# Altium footprint library ICs.PcbLib: 6 footprints
Each footprint in its own frame and in the unit in brackets; x right, y up, seen from the top. Pads: shape width x height; smd on the part's side, far side on the other; paste and mask are expansions set on the pad; w line width, h text height; cw(c..) or ccw(c..) is an arc to the next point about the centre after c.
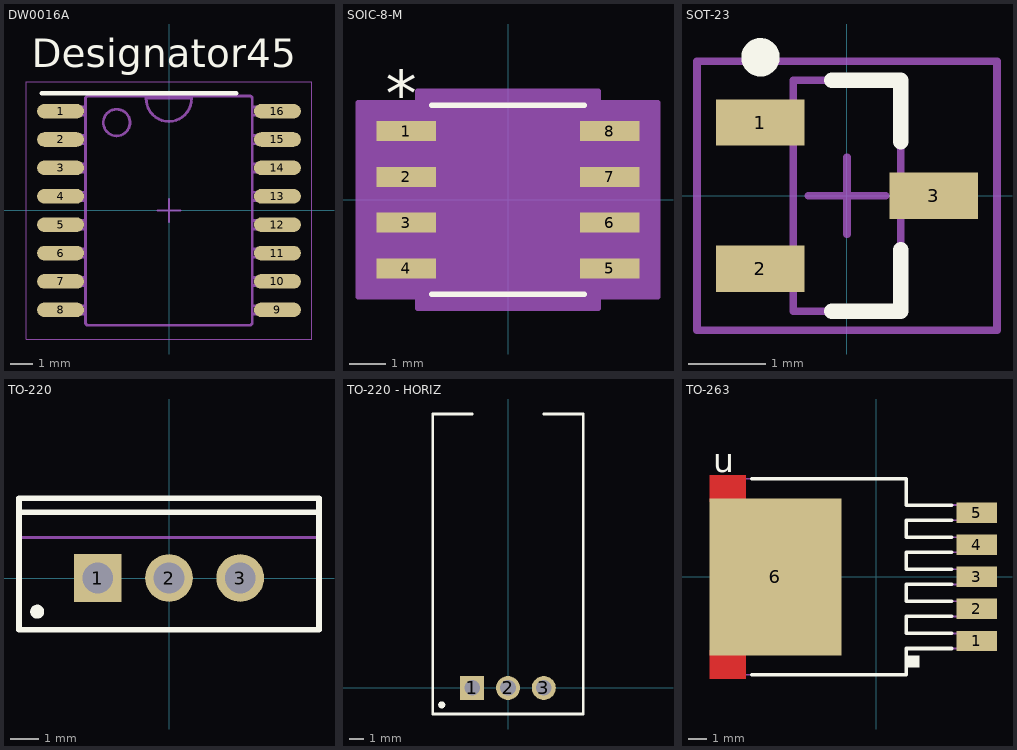
[diagram p0: the footprints below, top view; thin cyan lines are the x and y axes]

## DW0016A [mm]
height 2.65
pads (16):
  oval 2.1x0.65 smd paste+0 mask+0.051: 1(-4.85,4.445) 2(-4.85,3.175) 3(-4.85,1.905) 4(-4.85,0.635) 5(-4.85,-0.635) 6(-4.85,-1.905) 7(-4.85,-3.175) 8(-4.85,-4.445) 9(4.85,-4.445) 10(4.85,-3.175) 11(4.85,-1.905) 12(4.85,-0.635) 13(4.85,0.635) 14(4.85,1.905) 15(4.85,3.175) 16(4.85,4.445)
Top Overlay:
  lines w0.2: -5.7,5.25 3,5.25
  text ".Designator" at -3.492,-0.635 h1.27
  text "Designator45" at -6.147,6.401 h1.27
Mechanical 13:
  drawing of 193 lines, arcs and shapes, not listed
  text ".Designator" at -3.492,-0.635 h1.27
Mechanical 15:
  lines w0.05: -6.375,-5.75 -6.375,5.75 6.375,5.75 6.375,-5.75 -6.375,-5.75
  lines w0.1: -0.5,0 0.5,0 ; 0,-0.5 0,0.5
3D body: height 2.59, standoff 0, extent -5.167,-5.15 5.167,5.15

## SOIC-8-M [mil]
pads (8):
  rect 65.5x22 smd paste+0 mask+0: 1(-111.25,75) 2(-111.25,25) 3(-111.25,-25) 4(-111.25,-75) 5(111.25,-75) 6(111.25,-25) 7(111.25,25) 8(111.25,75)
Top Overlay:
  lines w6: -83.5,-103.5 83.5,-103.5 ; -83.5,103.5 83.5,103.5
  text ".Designator" at -137.5,-25 h50
  text "*" at -133.75,92 h50
Mechanical 13:
  lines w1: -12,98.5 ccw(c0,98.5) 12,98.5 ; -122,-85 -122,-65 -78.5,-65 -78.5,-85 -122,-85 ; -122,-35 -122,-15 -78.5,-15 -78.5,-35 -122,-35 ; -122,15 -122,35 -78.5,35 -78.5,15 -122,15 ; -122,65 -122,85 -78.5,85 -78.5,65 -122,65 ; -78.5,-98.5 78.5,-98.5 78.5,98.5 -78.5,98.5 -78.5,-98.5 ; 78.5,-85 78.5,-65 122,-65 122,-85 78.5,-85 ; 78.5,-35 78.5,-15 122,-15 122,-35 78.5,-35 ; 78.5,15 78.5,35 122,35 122,15 78.5,15 ; 78.5,65 78.5,85 122,85 122,65 78.5,65
  text "*" at -76,45.5 h50
  text ".Designator" at -137.5,-25 h50
Mechanical 15:
  region: -98.5,-106 -164,-106 -164,106 -98.5,106 -98.5,118.5 98.5,118.5 98.5,106 164,106 164,-106 98.5,-106 98.5,-118.5 -98.5,-118.5
  lines w6: -164,-106 -164,106 -98.5,106 -98.5,118.5 98.5,118.5 98.5,106 164,106 164,-106 98.5,-106 98.5,-118.5 -98.5,-118.5 -98.5,-106 -164,-106
3D body: height 69.09, standoff 0, extent -122.01,-98.5 122.01,98.5
3D body: height 69.09, standoff 0, extent -122.01,-98.5 122.01,98.5

## SOT-23 [mm] "SOT23, 3-Leads, Body 2.9x1.3mm, Pitch 0.95mm, Lead Span 2.3mm"
height 1.11
pads (3):
  rect 1.15x0.6 smd: 1(-1.125,0.95) 2(-1.125,-0.95) 3(1.125,0)
Top Overlay:
  circle w0.25: c-1.125,1.8 r0.125
  lines w0.2: -0.2,-1.5 0.7,-1.5 0.7,-0.7 ; -0.2,1.5 0.7,1.5 0.7,0.7
Mechanical 13:
  lines w0.1: -0.7,-1.5 0.7,-1.5 0.7,1.5 -0.7,1.5 -0.7,-1.5
Mechanical 15:
  lines w0.1: -0.5,0 0.5,0 ; 0,-0.5 0,0.5 ; -1.95,-1.75 1.95,-1.75 1.95,1.75 -1.95,1.75 -1.95,-1.75
3D body: height 1.11, standoff 0, extent -0.7,-1.5 0.7,1.5

## TO-220 [mm] "TO, Thru-Hole, Vertical, 3 In-Line Leads; Pitch 2.54 mm"
height 22.9
pads (3):
  rect 1.7x1.7 hole 1.1: 1(-2.54,0)
  round 1.7 hole 1.1: 2(0,0) 3(2.54,0)
Top Overlay:
  circle w0.25: c-4.7,-1.2 r0.125
  lines w0.2: -5.35,2.35 5.35,2.35 ; -5.35,-1.85 5.35,-1.85 5.35,2.85 -5.35,2.85 -5.35,-1.85
Mechanical 13:
  lines w0.1: -5.35,1.45 5.35,1.45 ; -5.35,-1.85 -5.35,2.85 5.35,2.85 5.35,-1.85 -5.35,-1.85
Mechanical 15:
  lines w0.1: -0.5,0 0.5,0 ; 0,-0.5 0,0.5
3D body: height 18.54, standoff -3.81, extent -5.029,-1.422 5.131,3.15

## TO-220 - HORIZ [mm] "TO, Thru-Hole, horizontal, 3 In-Line Leads; Pitch 2.54 mm"
height 4.7
pads (3):
  rect 1.7x1.7 hole 1.1: 1(-2.54,0)
  round 1.7 hole 1.1: 2(0,0) 3(2.54,0)
Top Overlay:
  circle w0.25: c-4.7,-1.2 r0.125
  lines w0.2: -2.54,19.431 -5.334,19.431 -5.334,-1.85 5.334,-1.85 5.334,19.431 2.54,19.431
Mechanical 13:
  lines w0.1: -2.54,19.431 -5.35,19.431 -5.35,-1.85 5.35,-1.85 5.35,19.431 2.54,19.431
Mechanical 15:
  lines w0.1: -0.5,0 0.5,0 ; 0,-0.5 0,0.5
3D body: height 4.2, standoff -3, extent -5.08,-0.25 5.08,19.24

## TO-263 [mm]
pads (6):
  rect 2.16x1.07 smd paste-0.102 mask+0.051: 1(5.338,-3.4) 2(5.338,-1.7) 3(5.338,0.005) 4(5.338,1.7) 5(5.338,3.4)
  rect 6.99x8.33 smd paste-0.102 mask+0.051: 6(-5.338,0)
Top Layer:
  region: -8.832,-3.9 -8.832,-5.4 -6.923,-5.4 -6.923,-3.9
  region: -8.832,5.4 -8.832,4 -6.923,4 -6.923,5.4
Top Overlay:
  region: 1.6,-4.2 1.6,-4.8 2.3,-4.8 2.3,-4.2
  lines w0.2: -6.6,-5.2 1.6,-5.2 1.6,-3.8 4,-3.8 ; -6.6,5.2 1.6,5.2 1.6,3.8 4,3.8 ; 4,-3 1.6,-3 1.6,-2.1 4,-2.1 ; 4,-1.3 1.6,-1.3 1.6,-0.4 4,-0.4 ; 4,0.4 1.6,0.4 1.6,1.3 4,1.3 ; 4,2.1 1.6,2.1 1.6,3 4,3
  text ".Designator" at -3.492,-0.635 h1.27
  text "u" at -8.636,5.537 h1.27
Top Paste:
  region: -8.731,-4.002 -8.731,-5.298 -7.024,-5.298 -7.024,-4.002
  region: -8.731,5.298 -8.731,4.102 -7.024,4.102 -7.024,5.298
Top Solder:
  region: -8.883,-3.849 -8.883,-5.451 -6.872,-5.451 -6.872,-3.849
  region: -8.883,5.451 -8.883,3.949 -6.872,3.949 -6.872,5.451
Mechanical 13:
  lines w0.1: -8.3,-3.3 -7.9,-5.2 1.6,-5.2 1.6,-3.8 6,-3.8 6,-3 1.6,-3 1.6,-2.1 6,-2.1 6,-1.3 1.6,-1.3 1.6,-0.4 6,-0.4 6,0.4 1.6,0.4 1.6,1.3 6,1.3 6,2.1 1.6,2.1 1.6,3 6,3 6,3.8 1.6,3.8 1.6,5.2 -7.9,5.2 -8.3,3.6 -8.3,-3.3
  text ".Designator" at -3.492,-0.635 h1.27
3D body: height 4.57, standoff -0.15, extent -8.547,-5.08 5.753,5.08